# Altium schematic symbol library Capacitors.SchLib: 3 symbols
Pins are listed as number, name and electrical type; pins without a type are passive.

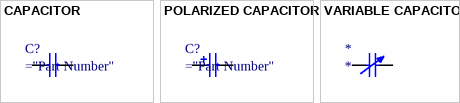
[diagram p0: symbols CAPACITOR to VARIABLE CAPACITOR]

## CAPACITOR
designator C?
pins: 1, 2

## POLARIZED CAPACITOR
designator C?
pins: 1, 2

## VARIABLE CAPACITOR
designator *
pins: 1, 2